# Altium schematic symbol library WL-SDCB.SchLib: 2 symbols
Pins are listed as number, name and electrical type; pins without a type are passive.

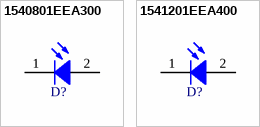
[diagram p0: symbols 1540801EEA300 to 1541201EEA400]

## 1540801EEA300
designator D?  (value not drawn)
WL-SDCB SMT Photodiode Chip Black, size 0805, 700-1100nm, 1µA, 130°; Manufacturer: Wurth Elektronik; Case/Size Code: 0805; Dark Current Max: 10nA; Range of Spectral Bandwidth Min: 700nm; Range of Spectral Bandwidth Max: 1100nm; Wavelength of Peak Sensitivity: 940nm; ComponentLink1Description: Website Link; ComponentLink1URL: https://www.we-online.com/redexpert/article/1540801EEA300?ad; ComponentLink2Description: Datasheet Link; ComponentLink2URL: https://www.we-online.com/redexpert/spec/1540801EEA300?ad; Manufacturer Part Number: 1540801EEA300; Category: Photodiodes; Match Code: WL-SDCB; Mount: Surface Mount; Operating Temperature Max: 85°C; Operating Temperature Min: -40°C; Packaging: Tape and Reel; Length: 2mm; Width: 1.3mm; Height: 0.8mm; Photo Current: 1µA; Viewing Angle: 130°
footprint WL-SDCB_0805
pins: 1 K, 2 A

## 1541201EEA400
designator D?  (value not drawn)
WL-SDCB SMT Photodiode Chip Black, size 1206, 700-1100nm, 1.8µA, 140°; Manufacturer: Wurth Elektronik; Case/Size Code: 1206; Dark Current Max: 10nA; Range of Spectral Bandwidth Min: 700nm; Range of Spectral Bandwidth Max: 1100nm; Wavelength of Peak Sensitivity: 940nm; ComponentLink1Description: Website Link; ComponentLink1URL: https://www.we-online.com/redexpert/article/1541201EEA400?ad; ComponentLink2Description: Datasheet Link; ComponentLink2URL: https://www.we-online.com/redexpert/spec/1541201EEA400?ad; Manufacturer Part Number: 1541201EEA400; Category: Photodiodes; Match Code: WL-SDCB; Mount: Surface Mount; Operating Temperature Max: 85°C; Operating Temperature Min: -40°C; Packaging: Tape and Reel; Length: 3.2mm; Width: 1.6mm; Height: 1.1mm; Photo Current: 1.8µA; Viewing Angle: 140°
footprint WL-SDCB_1206
pins: 1 K, 2 A